# Altium schematic symbol library SCH_Switch.SchLib: 3 symbols
Pins are listed as number, name and electrical type; pins without a type are passive.

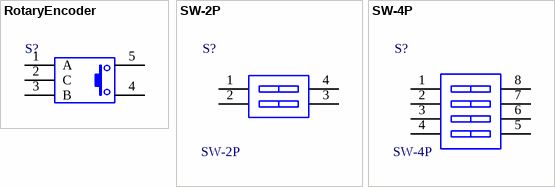
[diagram p0: symbols RotaryEncoder to SW-4P]

## RotaryEncoder
designator S?  (value not drawn)
Encoder; Value: RotaryEncoder
footprint RotaryEncoder
pins: 1 A, 2 C, 3 B, 4, 5

## SW-2P
designator S?
拨码开关2P
footprint SW-SMD-2-2.54
footprint SW-SMD-2-1.27
pins: 1 A1, 2 A2, 3 B2, 4 B1

## SW-4P
designator S?
拨码开关4P
footprint SW-SMD-4-2.54
footprint SW-SMD-4-1.27
pins: 1 A1, 2 A2, 3 A3, 4 A4, 5 B4, 6 B3, 7 B2, 8 B1